# EAGLE library part 6PIN-HEADER (library 000_CustomPartsMaster)
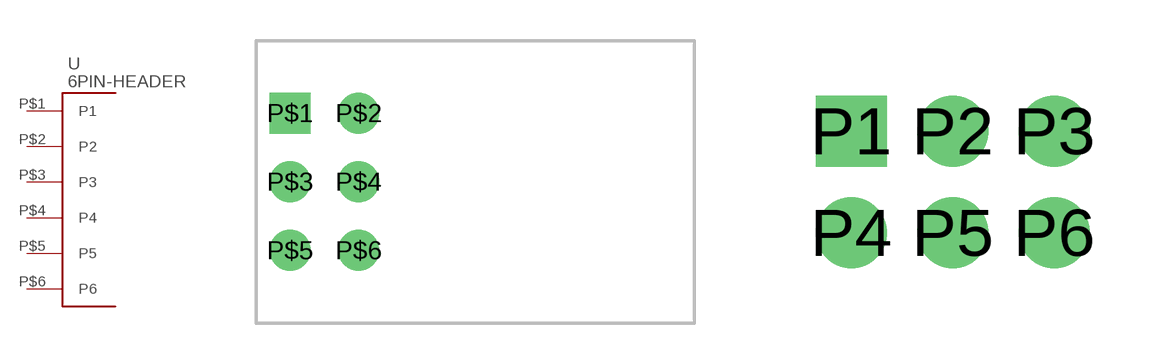
[diagram p4: symbol with the pads of RIGHTANGLE-6PIN; footprints RIGHTANGLE-6PIN, 6PINHEADER]

Designator prefix -

## 6PIN-HEADERRIGHT-ANGLE  [RIGHTANGLE-6PIN]
P$1  P1
P$2  P2
P$3  P3
P$4  P4
P$5  P5
P$6  P6

## 6PIN-HEADERSTANDARD  [6PINHEADER]
P1  P1
P2  P2
P3  P3
P4  P4
P5  P5
P6  P6

## 6PIN-HEADER  [6PIN_HEADER_LINEAR]
Pads as for 6PINHEADER

## 6PIN-HEADER2X3  [6PINHEADER_CORRECT]
1  P1
2  P2
3  P3
4  P4
5  P5
6  P6

## 6PIN-HEADERMOLEX  [6PIN_MOLEX]
Pads as for 6PINHEADER_CORRECT

## 6PIN-HEADER2X3_SMD  [6PIN_SMD]
Pads as for 6PINHEADER_CORRECT

## 6PIN-HEADER6X1_ANDERSON  [6X1_ANDERSON]
Pads as for 6PINHEADER

## Footprint RIGHTANGLE-6PIN (pad centres in mm)
drill 0.9 pad 1.524 square: P$1 -1.27,2.54
drill 0.9 pad 1.524: P$2 1.27,2.54; P$3 -1.27,0; P$4 1.27,0; P$5 -1.27,-2.54; P$6 1.27,-2.54

## Footprint 6PINHEADER (pad centres in mm)
drill 1.1 pad 1.778 square: P1 0,0
drill 1.1 pad 1.778: P2 2.54,0; P3 5.08,0; P4 0,-2.54; P5 2.54,-2.54; P6 5.08,-2.54

## Footprint 6PIN_HEADER_LINEAR (pad centres in mm)
drill 1 pad 1.676 square: P1 0,6.35
drill 1 pad 1.676: P2 0,3.81; P3 0,1.27; P4 0,-1.27; P5 0,-3.81; P6 0,-6.35

## Footprint 6PINHEADER_CORRECT (pad centres in mm)
drill 1 pad 1.676 square: 1 0,0
drill 1 pad 1.676: 2 2.54,0; 3 0,-2.54; 4 2.54,-2.54; 5 0,-5.08; 6 2.54,-5.08

## Footprint 6PIN_MOLEX (pad centres in mm)
drill 1.1 square: 1 7.5,4.32
drill 1.1: 2 4.5,4.32; 3 1.5,4.32; 4 -1.5,4.32; 5 -4.5,4.32; 6 -7.5,4.32
hole 3 at -5.35,0
hole 3 at 5.35,0

## Footprint 6PIN_SMD (pad centres in mm)
smd 1.27 x 3.683: 1 -2.54,-2.223; 2 -2.54,2.223; 3 0,-2.223; 4 0,2.223; 5 2.54,-2.223; 6 2.54,2.223

## Footprint 6X1_ANDERSON (pad centres in mm)
drill 5.5: P1 3.5,3.95; P2 3.5,11.85; P3 3.5,19.75; P4 3.5,27.65; P5 3.5,35.55; P6 3.5,43.45
drill 1.2: STAPLE1 -14.7,0.45; STAPLE2 -14.7,46.95